# EAGLE library part C8051F330D (library silabs-2)
8kB ILP Flash MCU Family Source: www.silabs.com .. C8051F33x.pdf
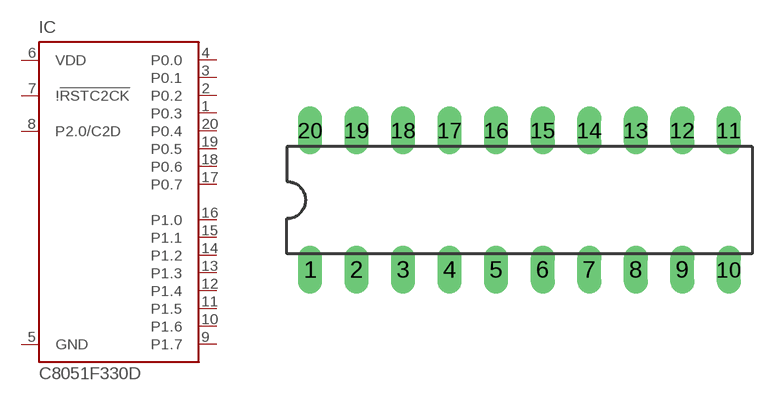
[diagram p3: symbol with the pads of DIL20; footprint DIL20]

Designator prefix IC

## C8051F330D  [DIL20]
1  P0.3
2  P0.2
3  P0.1
4  P0.0
5  GND  pwr
6  VDD  pwr
7  !!RSTC2CK  in
8  P2.0/C2D
9  P1.7
10  P1.6
11  P1.5
12  P1.4
13  P1.3
14  P1.2
15  P1.1
16  P1.0
17  P0.7
18  P0.6
19  P0.5
20  P0.4

## Footprint DIL20 (pad centres in mm)
Dual In Line Package
drill 0.813 long: 1 -11.43,-3.81; 2 -8.89,-3.81; 3 -6.35,-3.81; 4 -3.81,-3.81; 5 -1.27,-3.81; 6 1.27,-3.81; 7 3.81,-3.81; 8 6.35,-3.81; 9 8.89,-3.81; 10 11.43,-3.81; 11 11.43,3.81; 12 8.89,3.81; 13 6.35,3.81; 14 3.81,3.81; 15 1.27,3.81; 16 -1.27,3.81; 17 -3.81,3.81; 18 -6.35,3.81; 19 -8.89,3.81; 20 -11.43,3.81